# Altium schematic symbol library HX711.SchLib: 1 symbol
Pins are listed as number, name and electrical type; pins without a type are passive.

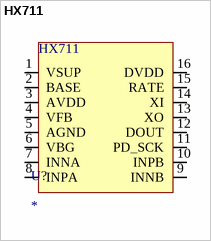
[diagram p0: symbol HX711]

## HX711
designator U?
Load cell amplifier; ComponentLink1Description: DATASHEET; ComponentLink1URL: https://www.alldatasheet.com/datasheet-pdf/download/1132222/AVIA/HX711.html
footprint HX711 (Load Cell amplifier)
pins: 1 VSUP, 2 BASE, 3 AVDD, 4 VFB, 5 AGND, 6 VBG, 7 INNA, 8 INPA, 9 INNB, 10 INPB, 11 PD_SCK, 12 DOUT, 13 XO, 14 XI, 15 RATE, 16 DVDD